# Altium footprint library alientek_sch_lib.PcbLib: 370 footprints (part 20 of 24)
Each footprint in its own frame and in the unit in brackets; x right, y up, seen from the top. Pads: shape width x height; smd on the part's side, far side on the other; paste and mask are expansions set on the pad; w line width, h text height; cw(c..) or ccw(c..) is an arc to the next point about the centre after c.
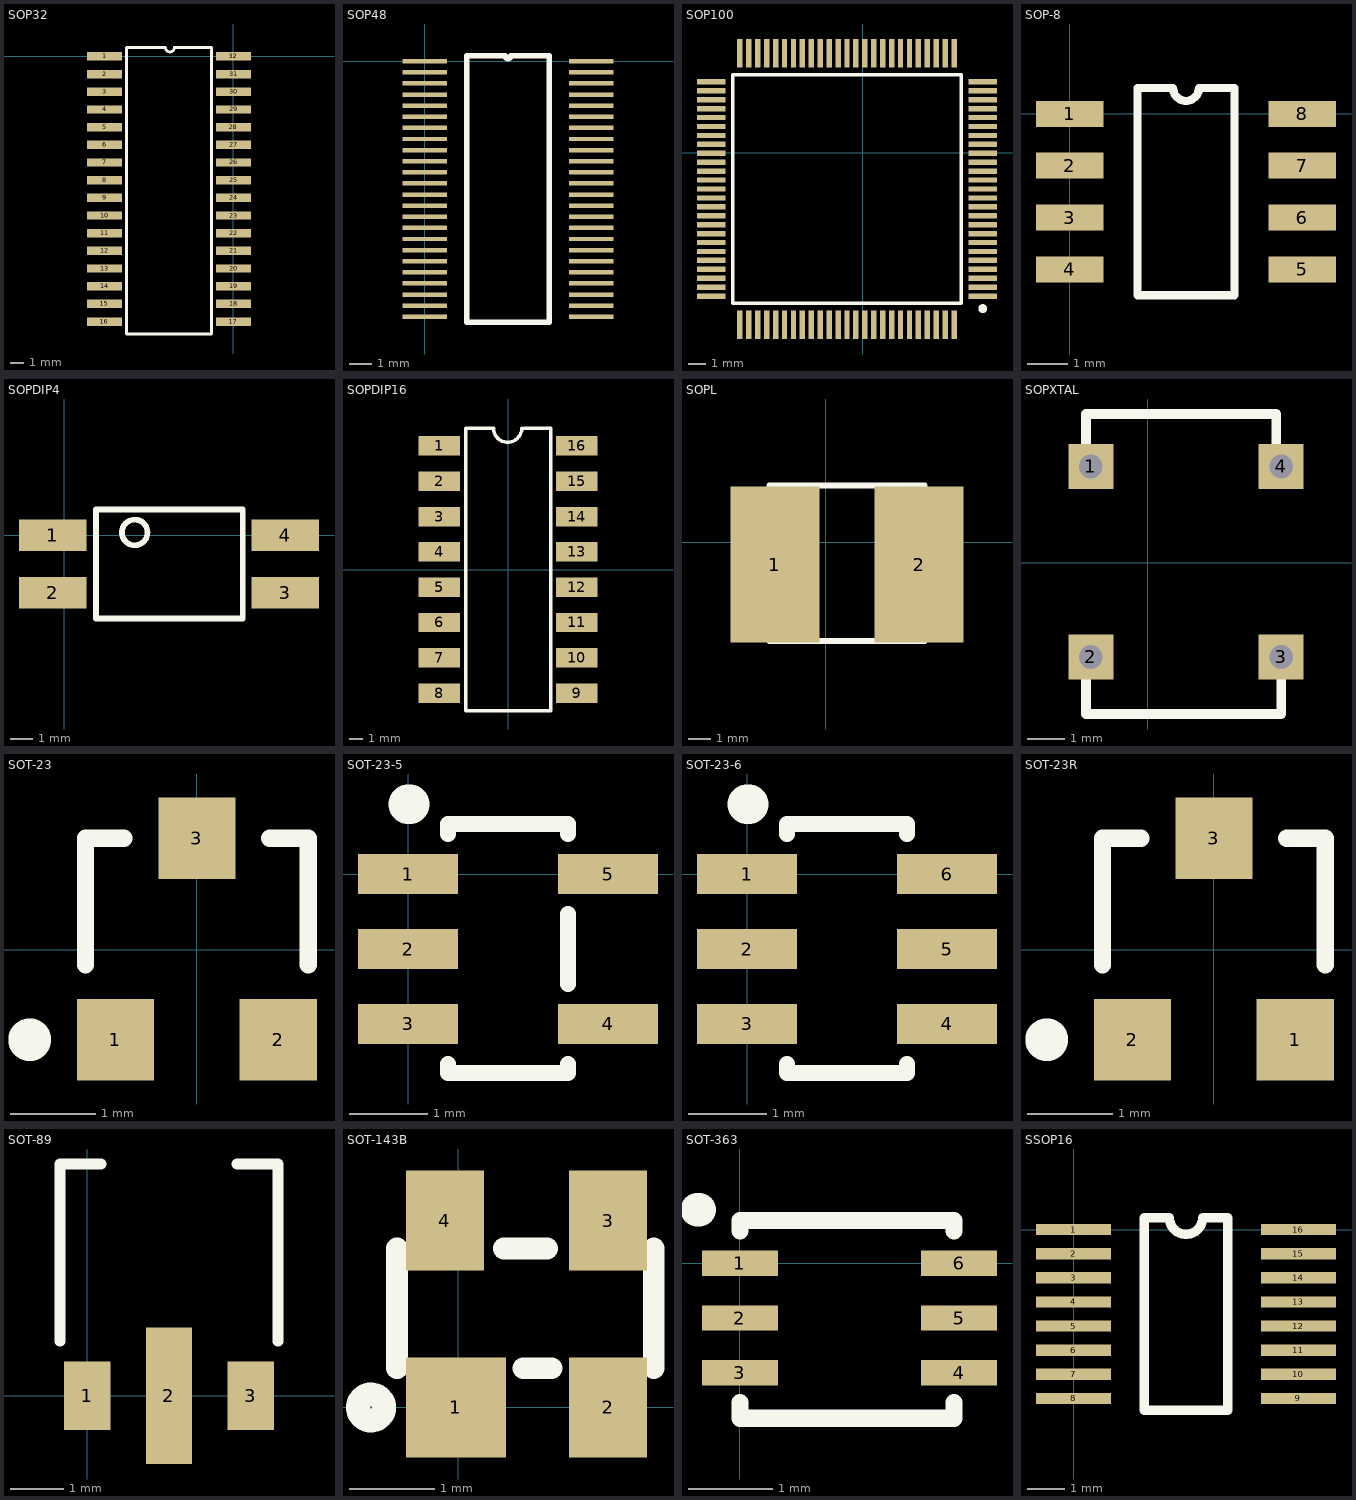
[diagram p19: the footprints below, top view; thin cyan lines are the x and y axes]

## SOP32 [mm] "e:1.27mm;He:10.0mm"
height 1
pads (32):
  rect 2.5x0.6 smd: 1(-9.258,0) 2(-9.258,-1.27) 3(-9.258,-2.54) 4(-9.258,-3.81) 5(-9.258,-5.08) 6(-9.258,-6.35) 7(-9.258,-7.62) 8(-9.258,-8.89) 9(-9.258,-10.16) 10(-9.258,-11.43) 11(-9.258,-12.7) 12(-9.258,-13.97) 13(-9.258,-15.24) 14(-9.258,-16.51) 15(-9.271,-17.78) 16(-9.271,-19.05) 17(0,-19.05) 18(0.013,-17.78) 19(0.013,-16.51) 20(0.013,-15.24) 21(0.013,-13.97) 22(0.013,-12.7) 23(0.013,-11.43) 24(0.013,-10.16) 25(0.013,-8.89) 26(0.013,-7.62) 27(0.013,-6.35) 28(0,-5.08) 29(0.013,-3.81) 30(0.013,-2.54) 31(0.013,-1.27) 32(0,0)
Top Overlay:
  lines w0.2: -7.677,-19.939 -7.677,0.635 -4.884,0.635 ccw(c-4.566,0.635) -4.249,0.635 -1.582,0.635 -1.582,-19.939 -7.677,-19.939

## SOP48 [mm] "SOP-48"
height 1.27
pads (48):
  rect 2x0.2 smd: 1(0,0) 2(0,-0.5) 3(0,-1) 4(0,-1.5) 5(0,-2) 6(0,-2.5) 7(0,-3) 8(0,-3.5) 9(0,-4) 10(0,-4.5) 11(0,-5) 12(0,-5.5) 13(0,-6) 14(0,-6.5) 15(0,-7) 16(0,-7.5) 17(0,-8) 18(0,-8.5) 19(0,-9) 20(0,-9.5) 21(0,-10) 22(0,-10.5) 23(0,-11) 24(0,-11.5) 25(7.5,-11.5) 26(7.5,-11) 27(7.5,-10.5) 28(7.5,-10) 29(7.5,-9.5) 30(7.5,-9) 31(7.5,-8.5) 32(7.5,-8) 33(7.5,-7.5) 34(7.5,-7) 35(7.5,-6.5) 36(7.5,-6) 37(7.5,-5.5) 38(7.5,-5) 39(7.5,-4.5) 40(7.5,-4) 41(7.5,-3.5) 42(7.5,-3) 43(7.5,-2.5) 44(7.5,-2) 45(7.5,-1.5) 46(7.5,-1) 47(7.5,-0.5) 48(7.5,0)
Top Overlay:
  lines w0.254: 1.889,-11.75 1.889,0.25 3.625,0.25 ccw(c3.75,0.25) 3.875,0.25 5.611,0.25 5.611,-11.75 1.889,-11.75

## SOP100 [mm] "TQFP"
height 1
pads (100):
  rect 1.6x0.3 smd: 1(6.731,-8.04) 2(6.731,-7.54) 3(6.731,-7.04) 4(6.731,-6.54) 5(6.731,-6.04) 6(6.731,-5.54) 7(6.731,-5.04) 8(6.731,-4.54) 9(6.731,-4.04) 10(6.731,-3.54) 11(6.731,-3.04) 12(6.731,-2.54) 13(6.731,-2.04) 14(6.731,-1.54) 15(6.731,-1.04) 16(6.731,-0.54) 17(6.731,-0.04) 18(6.731,0.46) 19(6.731,0.96) 20(6.731,1.46) 21(6.731,1.96) 22(6.731,2.46) 23(6.731,2.96) 24(6.731,3.46) 25(6.731,3.96) 51(-8.469,3.96) 52(-8.469,3.46) 53(-8.469,2.96) 54(-8.469,2.46) 55(-8.469,1.96) 56(-8.469,1.46) 57(-8.469,0.96) 58(-8.469,0.46) 59(-8.469,-0.04) 60(-8.469,-0.54) 61(-8.469,-1.04) 62(-8.469,-1.54) 63(-8.469,-2.04) 64(-8.469,-2.54) 65(-8.469,-3.04) 66(-8.469,-3.54) 67(-8.469,-4.04) 68(-8.469,-4.54) 69(-8.469,-5.04) 70(-8.469,-5.54) 71(-8.469,-6.04) 72(-8.469,-6.54) 73(-8.469,-7.04) 74(-8.469,-7.54) 75(-8.469,-8.04)
  rect 0.3x1.6 smd: 26(5.131,5.56) 27(4.631,5.56) 28(4.131,5.56) 29(3.631,5.56) 30(3.131,5.56) 31(2.631,5.56) 32(2.131,5.56) 33(1.631,5.56) 34(1.131,5.56) 35(0.631,5.56) 36(0.131,5.56) 37(-0.369,5.56) 38(-0.869,5.56) 39(-1.369,5.56) 40(-1.869,5.56) 41(-2.369,5.56) 42(-2.869,5.56) 43(-3.369,5.56) 44(-3.869,5.56) 45(-4.369,5.56) 46(-4.869,5.56) 47(-5.369,5.56) 48(-5.869,5.56) 49(-6.369,5.56) 50(-6.869,5.56) 76(-6.869,-9.64) 77(-6.369,-9.64) 78(-5.869,-9.64) 79(-5.369,-9.64) 80(-4.869,-9.64) 81(-4.369,-9.64) 82(-3.869,-9.64) 83(-3.369,-9.64) 84(-2.869,-9.64) 85(-2.369,-9.64) 86(-1.869,-9.64) 87(-1.369,-9.64) 88(-0.869,-9.64) 89(-0.369,-9.64) 90(0.131,-9.64) 91(0.631,-9.64) 92(1.131,-9.64) 93(1.631,-9.64) 94(2.131,-9.64) 95(2.631,-9.64) 96(3.131,-9.64) 97(3.631,-9.64) 98(4.131,-9.64) 99(4.631,-9.64) 100(5.131,-9.64)
Top Overlay:
  circle w0.25: c6.731,-8.74 r0.125
  lines w0.2: -7.269,-8.44 5.531,-8.44 5.531,4.36 -7.269,4.36 -7.269,-8.44

## SOP-8 [mil] "SOP"
height 39.37
pads (8):
  rect 65x25 smd: 1(0,0) 2(0,-50) 3(0,-100) 4(0,-150) 5(224.41,-150) 6(224.41,-100) 7(224.41,-50) 8(224.41,0)
Top Overlay:
  lines w7.87: 65.37,-175 159.04,-175 159.04,25 124.7,25 cw(c112.2,25) 99.7,25 65.37,25 65.37,-175

## SOPDIP4 [mm] "SOP-4,Row Spacing 7.62 mm; Pitch 2.54 mm"
height 5
pads (4):
  rect 3x1.4 smd: 1(-0.508,0) 2(-0.508,-2.54) 3(9.779,-2.54) 4(9.779,0)
Top Overlay:
  circle w0.254: c3.118,0.127 r0.568
  lines w0.254: 1.4,-3.683 1.4,1.143 7.9,1.143 7.9,-3.683 1.4,-3.683

## SOPDIP16 [mm] "SOP16;2.54mm;"
height 2
pads (16):
  rect 3x1.4 smd: 1(-4.953,8.89) 2(-4.953,6.35) 3(-4.953,3.81) 4(-4.953,1.27) 5(-4.953,-1.27) 6(-4.953,-3.81) 7(-4.953,-6.35) 8(-4.953,-8.89) 9(4.953,-8.89) 10(4.953,-6.35) 11(4.953,-3.81) 12(4.953,-1.27) 13(4.953,1.27) 14(4.953,3.81) 15(4.953,6.35) 16(4.953,8.89)
Top Overlay:
  lines w0.254: -3.05,-10.154 -3.05,10.166 -1.145,10.166 ; -3,-10.154 3.02,-10.154 ; -1.044,10.166 ccw(c-0.028,10.166) 0.988,10.166 ; 1.166,10.166 3.071,10.166 3.071,-10.154

## SOPL [mm] "SOP LX"
height 3
pads (2):
  rect 4x7 smd: 1(-2.286,-1.016) 2(4.191,-1.016)
Top Overlay:
  lines w0.254: -2.54,-4.445 4.445,-4.445 4.445,2.54 -2.54,2.54 -2.54,-4.445

## SOPXTAL [mm]
height 1
pads (4):
  rect 1.2x1.2 on Top hole 0.635: 1(-1.524,2.565) 2(-1.524,-2.515) 3(3.556,-2.515) 4(3.556,2.565)
Top Overlay:
  lines w0.254: -1.651,-2.515 -1.651,-4.039 3.556,-4.039 3.556,-2.515 ; -1.651,2.565 -1.651,3.962 3.429,3.962 3.429,2.565

## SOT-23 [mm] "SOT-23; 3 Leads; Body 3.0 x 2.5 mm, inc. leads (LxW max)"
height 1.2
pads (3):
  rect 0.9x0.95 smd: 1(-0.95,-1.048) 2(0.95,-1.048) 3(0,1.302)
Top Overlay:
  circle w0.25: c-1.95,-1.048 r0.125
  lines w0.2: -1.3,-0.173 -1.3,1.302 -0.85,1.302 ; 0.85,1.302 1.3,1.302 1.3,-0.173

## SOT-23-5 [mil]
height 78.74
pads (5):
  rect 50x20 smd: 1(0,0) 2(0,-37.4) 3(0,-74.8) 4(100,-74.8) 5(100,0)
Top Overlay:
  lines w8: 20,-95 20,-99.32 80,-99.32 80,-95 ; 20,20 20,25 80,25 80,20 ; 80,-55 80,-20
  lines w19.68: 0,35 1,35

## SOT-23-6 [mil]
height 78.74
pads (6):
  rect 50x20 smd: 1(0,0) 2(0,-37.4) 3(0,-74.8) 4(100,-74.8) 5(100,-37.4) 6(100,0)
Top Overlay:
  lines w8: 20,-95 20,-99.32 80,-99.32 80,-95 ; 20,20 20,25 80,25 80,20
  lines w19.68: 0,35 1,35

## SOT-23R [mm] "SOT-23; 3 Leads; Body 3.0 x 2.5 mm, inc. leads (LxW max)"
height 1.2
pads (3):
  rect 0.9x0.95 smd: 1(0.95,-1.048) 2(-0.95,-1.048) 3(0,1.302)
Top Overlay:
  circle w0.25: c-1.95,-1.048 r0.125
  lines w0.2: -1.3,-0.173 -1.3,1.302 -0.85,1.302 ; 0.85,1.302 1.3,1.302 1.3,-0.173

## SOT-89 [mil]
pads (3):
  rect 34x50 smd: 1(0,0) 3(120,0)
  rect 34x100 smd: 2(60,0)
Top Overlay:
  lines w8: -20,40 -20,170 10,170 ; 110,170 140,170 140,40
Top Solder:
  lines w80: 60,60 60,140 60,60

## SOT-143B [mil]
height 47.24
pads (4):
  rect 46x46 smd: 1(-1,0)
  rect 36x46 smd: 2(69,0) 3(69,86) 4(-6,86)
Top Overlay:
  circle w11: c-40,0 r6
  lines w10: -28.11,18 -28.11,73.12 ; 21,73.12 41,73.12 ; 30,18 43,18 ; 90,18 90,73.12

## SOT-363 [mm]
height 2
pads (6):
  rect 0.9x0.3 smd: 1(0,0) 2(0,-0.65) 3(0,-1.3) 4(2.6,-1.3) 5(2.6,-0.65) 6(2.6,0)
Top Overlay:
  lines w0.203: 0,-1.651 0,-1.838 2.54,-1.838 2.54,-1.651 ; 0,0.381 0,0.508 2.54,0.508 2.54,0.381
  lines w0.4: -0.508,0.635 -0.483,0.635

## SSOP16 [mm] "ADS7843,P2P:0.625mm,w:6mm"
height 1.2
pads (16):
  rect 2x0.3 smd: 1(0,0) 2(0,-0.643) 3(0,-1.286) 4(0,-1.929) 5(0,-2.572) 6(0,-3.215) 7(0,-3.858) 8(0,-4.501) 9(6,-4.501) 10(6,-3.858) 11(6,-3.215) 12(6,-2.572) 13(6,-1.929) 14(6,-1.286) 15(6,-0.643) 16(6,0)
Top Overlay:
  lines w0.254: 1.889,-4.822 4.111,-4.822 4.111,0.322 3.447,0.322 cw(c3,0.322) 2.553,0.322 1.889,0.322 1.889,-4.822